# Altium footprint library Oscillator.PcbLib: 62 footprints (part 2 of 4)
Each footprint in its own frame and in the unit in brackets; x right, y up, seen from the top. Pads: shape width x height; smd on the part's side, far side on the other; paste and mask are expansions set on the pad; w line width, h text height; cw(c..) or ccw(c..) is an arc to the next point about the centre after c.
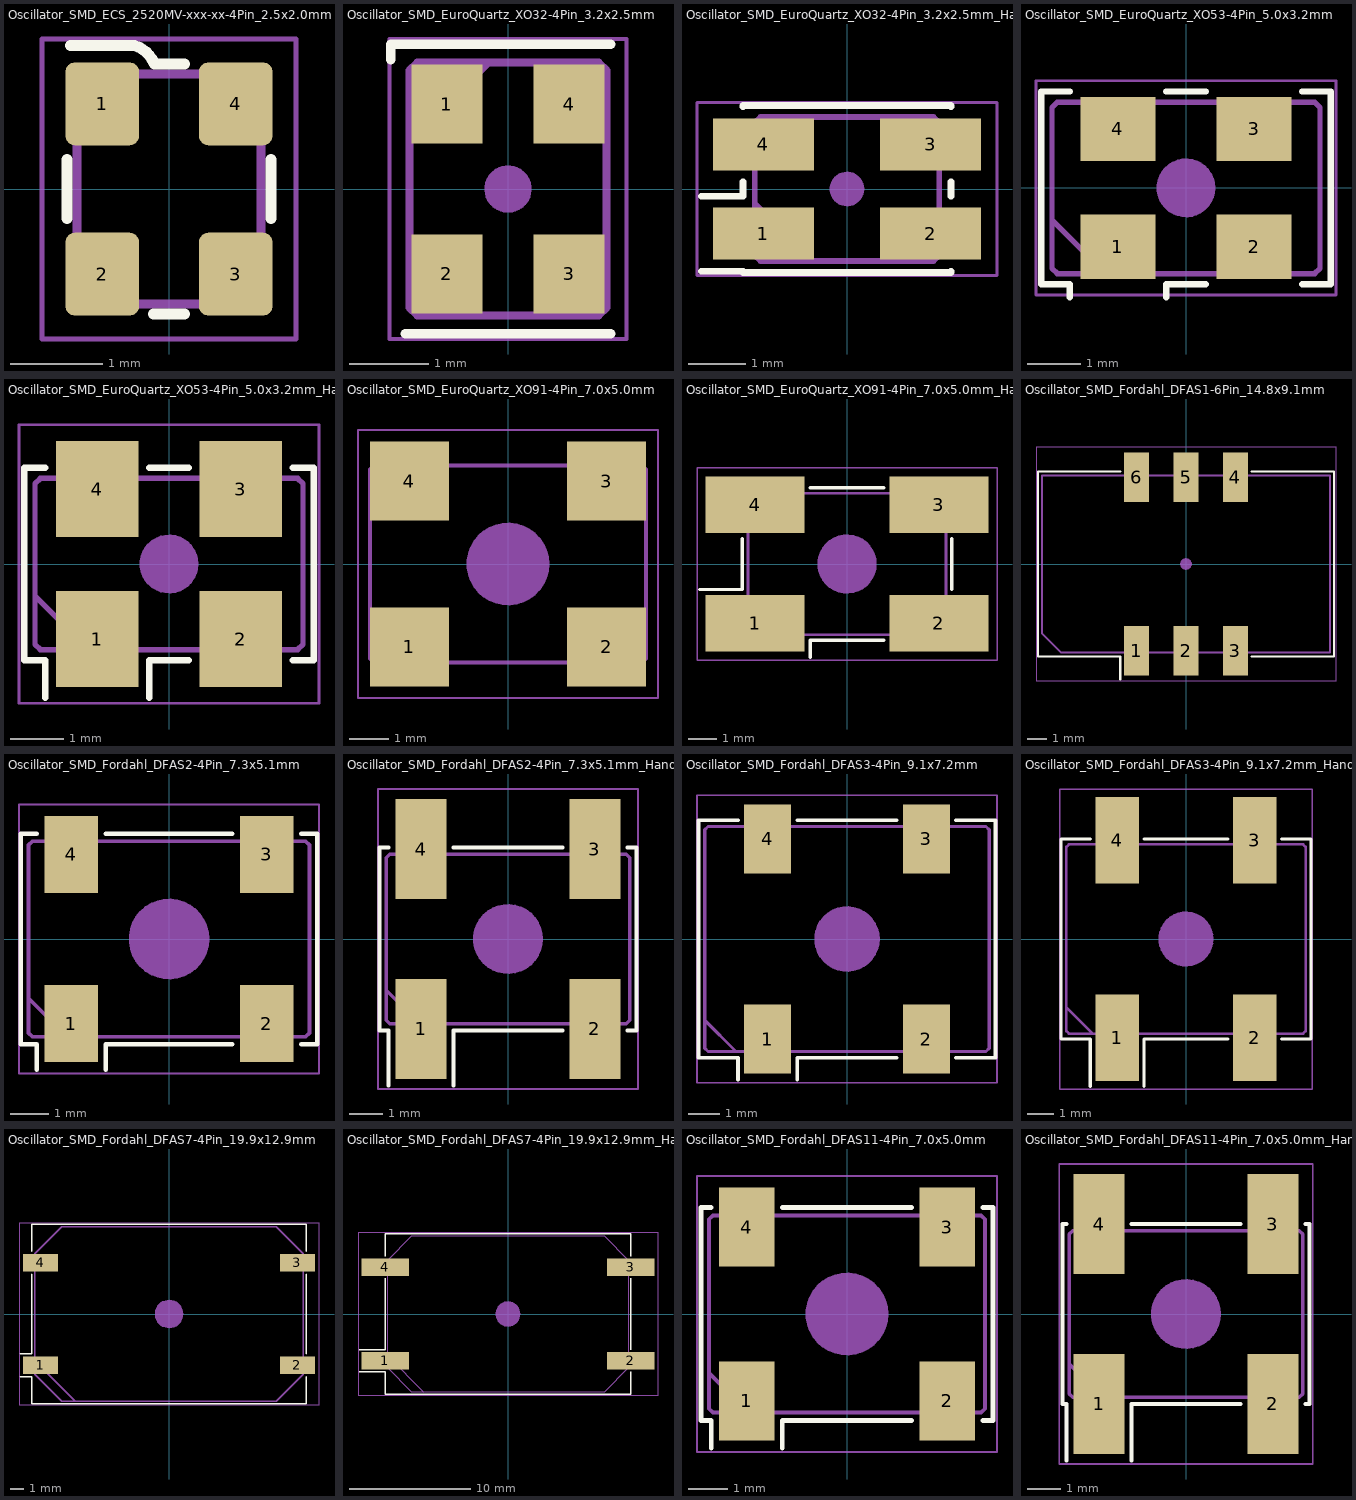
[diagram p1: the footprints below, top view; thin cyan lines are the x and y axes]

## Oscillator_SMD_ECS_2520MV-xxx-xx-4Pin_2.5x2.0mm [mm]
pads (4):
  rrect25% 0.8x0.9 smd: 1(-0.725,0.925) 2(-0.725,-0.925) 3(0.725,-0.925) 4(0.725,0.925)
F.SilkS:
  lines w0.12: -1.11,-0.32 -1.11,0.32 ; -1.07,1.56 -0.38,1.56 cw(c-0.47,1.24) -0.16,1.36 0.17,1.36 ; -0.17,-1.36 0.17,-1.36 ; 1.11,-0.32 1.11,0.32
F.CrtYd:
  lines w0.05: -1.38,-1.63 1.38,-1.63 1.38,1.63 -1.38,1.63 -1.38,-1.63
F.Fab:
  lines w0.1: -1,-1.25 -1,0.75 -0.5,1.25 1,1.25 1,-1.25 -1,-1.25
  text "'.Designator'" at 0.42,-2.023 h0.5

## Oscillator_SMD_EuroQuartz_XO32-4Pin_3.2x2.5mm [mm]
pads (4):
  rect 0.9x1 smd: 1(-0.775,1.075) 2(-0.775,-1.075) 3(0.775,-1.075) 4(0.775,1.075)
F.SilkS:
  lines w0.12: -1.485,1.635 -1.485,1.835 1.3,1.835 ; -1.3,-1.835 1.3,-1.835
F.CrtYd:
  lines w0.05: -1.5,-1.9 1.5,-1.9 1.5,1.9 -1.5,1.9 -1.5,-1.9
F.Fab:
  lines w0.1: -1.25,0.6 -0.25,1.6 ; -1.25,-1.5 -1.25,1.5 -1.15,1.6 1.15,1.6 1.25,1.5 1.25,-1.5 1.15,-1.6 -1.15,-1.6 -1.25,-1.5
  text "'.Designator'" at 0.588,-2.833 h0.7
F.Adhes:
  circle w0.1: c0,0 r0.25
  circle w0.117: c0,0 r0.058
  circle w0.083: c0,0 r0.208
  circle w0.083: c0,0 r0.133

## Oscillator_SMD_EuroQuartz_XO32-4Pin_3.2x2.5mm_HandSoldering [mm]
pads (4):
  rect 1.75x0.9 smd: 1(-1.45,-0.775) 2(1.45,-0.775) 3(1.45,0.775) 4(-1.45,0.775)
F.SilkS:
  lines w0.12: -2.525,-1.425 -1.8,-1.425 -1.8,-1.45 1.8,-1.45 1.8,-1.425 ; -2.525,-0.125 -1.8,-0.125 -1.8,0.125 ; -1.8,1.425 -1.8,1.45 1.8,1.45 1.8,1.425 ; 1.8,-0.125 1.8,0.125
F.CrtYd:
  lines w0.05: -2.6,-1.5 -2.6,1.5 2.6,1.5 2.6,-1.5 -2.6,-1.5
F.Fab:
  lines w0.1: -1.6,-0.25 -0.6,-1.25 ; -1.6,-1.15 -1.6,1.15 -1.5,1.25 1.5,1.25 1.6,1.15 1.6,-1.15 1.5,-1.25 -1.5,-1.25 -1.6,-1.15
  text "'.Designator'" at -2.833,-0.588 h0.7
F.Adhes:
  circle w0.1: c0,0 r0.25
  circle w0.083: c0,0 r0.208
  circle w0.083: c0,0 r0.133
  circle w0.117: c0,0 r0.058

## Oscillator_SMD_EuroQuartz_XO53-4Pin_5.0x3.2mm [mm]
pads (4):
  rect 1.4x1.2 smd: 1(-1.27,-1.1) 2(1.27,-1.1) 3(1.27,1.1) 4(-1.27,1.1)
F.SilkS:
  lines w0.12: -2.17,-2.04 -2.17,-1.8 -2.7,-1.8 -2.7,1.8 -2.17,1.8 ; -0.37,-2.04 -0.37,-1.8 0.37,-1.8 ; -0.37,1.8 0.37,1.8 ; 2.17,-1.8 2.7,-1.8 2.7,1.8 2.17,1.8
F.CrtYd:
  lines w0.05: -2.8,-2 2.8,-2 2.8,2 -2.8,2 -2.8,-2
F.Fab:
  lines w0.1: -2.5,-0.6 -1.5,-1.6 ; -2.5,-1.5 -2.5,1.5 -2.4,1.6 2.4,1.6 2.5,1.5 2.5,-1.5 2.4,-1.6 -2.4,-1.6 -2.5,-1.5
  text "'.Designator'" at -4.047,-0.84 h1
F.Adhes:
  circle w0.1: c0,0 r0.5
  circle w0.233: c0,0 r0.117
  circle w0.167: c0,0 r0.417
  circle w0.167: c0,0 r0.267

## Oscillator_SMD_EuroQuartz_XO53-4Pin_5.0x3.2mm_HandSoldering [mm]
pads (4):
  rect 1.54x1.8 smd: 1(-1.34,-1.4) 2(1.34,-1.4) 3(1.34,1.4) 4(-1.34,1.4)
F.SilkS:
  lines w0.12: -2.31,-2.5 -2.31,-1.8 -2.7,-1.8 -2.7,1.8 -2.31,1.8 ; -0.37,-2.5 -0.37,-1.8 0.37,-1.8 ; -0.37,1.8 0.37,1.8 ; 2.31,-1.8 2.7,-1.8 2.7,1.8 2.31,1.8
F.CrtYd:
  lines w0.05: -2.8,-2.6 2.8,-2.6 2.8,2.6 -2.8,2.6 -2.8,-2.6
F.Fab:
  lines w0.1: -2.5,-0.6 -1.5,-1.6 ; -2.5,-1.5 -2.4,-1.6 2.4,-1.6 2.5,-1.5 2.5,1.5 2.4,1.6 -2.4,1.6 -2.5,1.5 -2.5,-1.5
  text "'.Designator'" at -4.047,-0.84 h1
F.Adhes:
  circle w0.167: c0,0 r0.267
  circle w0.167: c0,0 r0.417
  circle w0.1: c0,0 r0.5
  circle w0.233: c0,0 r0.117

## Oscillator_SMD_EuroQuartz_XO91-4Pin_7.0x5.0mm [mm]
pads (4):
  rect 2x2 smd: 1(-2.5,-2.1) 2(2.5,-2.1) 3(2.5,2.1) 4(-2.5,2.1)
F.CrtYd:
  lines w0.05: -3.8,-3.4 3.8,-3.4 3.8,3.4 -3.8,3.4 -3.8,-3.4
F.Fab:
  lines w0.1: -3.5,-1.5 -2.5,-2.5 ; -3.5,-2.4 -3.4,-2.5 3.4,-2.5 3.5,-2.4 3.5,2.4 3.4,2.5 -3.4,2.5 -3.5,2.4 -3.5,-2.4
  text "'.Designator'" at -4.047,-0.84 h1
F.Adhes:
  circle w0.1: c0,0 r1
  circle w0.333: c0,0 r0.833
  circle w0.333: c0,0 r0.533
  circle w0.467: c0,0 r0.233

## Oscillator_SMD_EuroQuartz_XO91-4Pin_7.0x5.0mm_HandSoldering [mm]
pads (4):
  rect 3.5x2 smd: 1(-3.25,-2.1) 2(3.25,-2.1) 3(3.25,2.1) 4(-3.25,2.1)
F.SilkS:
  lines w0.12: -5.2,-0.9 -3.7,-0.9 -3.7,0.9 ; -1.3,-3.3 -1.3,-2.7 1.3,-2.7 ; -1.3,2.7 1.3,2.7 ; 3.7,-0.9 3.7,0.9
F.CrtYd:
  lines w0.05: -5.3,-3.4 5.3,-3.4 5.3,3.4 -5.3,3.4 -5.3,-3.4
F.Fab:
  lines w0.1: -3.5,-1.5 -2.5,-2.5 ; -3.5,-2.4 -3.5,2.4 -3.4,2.5 3.4,2.5 3.5,2.4 3.5,-2.4 3.4,-2.5 -3.4,-2.5 -3.5,-2.4
  text "'.Designator'" at -4.047,-0.84 h1
F.Adhes:
  circle w0.1: c0,0 r1
  circle w0.333: c0,0 r0.533
  circle w0.333: c0,0 r0.833
  circle w0.467: c0,0 r0.233

## Oscillator_SMD_Fordahl_DFAS1-6Pin_14.8x9.1mm [mm]
pads (6):
  rect 1.27x2.54 smd: 1(-2.54,-4.45) 2(0,-4.45) 3(2.54,-4.45) 4(2.54,4.45) 5(0,4.45) 6(-2.54,4.45)
F.SilkS:
  lines w0.12: -3.375,-5.92 -3.375,-4.75 -7.6,-4.75 -7.6,4.75 -3.375,4.75 ; 3.375,-4.75 7.6,-4.75 7.6,4.75 3.375,4.75
F.CrtYd:
  lines w0.05: -7.7,-6 -7.7,6 7.7,6 7.7,-6 -7.7,-6
F.Fab:
  lines w0.1: -7.4,-3.55 -6.4,-4.55 7.4,-4.55 7.4,4.55 -7.4,4.55 -7.4,-3.55
  text "'.Designator'" at -4.047,-0.84 h1
F.Adhes:
  circle w0.117: c0,0 r0.058
  circle w0.083: c0,0 r0.208
  circle w0.083: c0,0 r0.133
  circle w0.1: c0,0 r0.25

## Oscillator_SMD_Fordahl_DFAS2-4Pin_7.3x5.1mm [mm]
pads (4):
  rect 1.4x2 smd: 1(-2.54,-2.2) 2(2.54,-2.2) 3(2.54,2.2) 4(-2.54,2.2)
F.SilkS:
  lines w0.12: -3.44,-3.4 -3.44,-2.74 -3.85,-2.74 -3.85,2.74 -3.44,2.74 ; -1.64,-3.4 -1.64,-2.74 1.64,-2.74 ; -1.64,2.74 1.64,2.74 ; 3.44,-2.74 3.85,-2.74 3.85,2.74 3.44,2.74
F.CrtYd:
  lines w0.05: -3.9,-3.5 3.9,-3.5 3.9,3.5 -3.9,3.5 -3.9,-3.5
F.Fab:
  lines w0.1: -3.65,-1.54 -2.65,-2.54 ; -3.65,-2.44 -3.65,2.44 -3.55,2.54 3.55,2.54 3.65,2.44 3.65,-2.44 3.55,-2.54 -3.55,-2.54 -3.65,-2.44
  text "'.Designator'" at -4.047,-0.84 h1
F.Adhes:
  circle w0.333: c0,0 r0.533
  circle w0.1: c0,0 r1
  circle w0.467: c0,0 r0.233
  circle w0.333: c0,0 r0.833

## Oscillator_SMD_Fordahl_DFAS2-4Pin_7.3x5.1mm_HandSoldering [mm]
pads (4):
  rect 1.54x3 smd: 1(-2.61,-2.7) 2(2.61,-2.7) 3(2.61,2.7) 4(-2.61,2.7)
F.SilkS:
  lines w0.12: -3.58,-4.4 -3.58,-2.74 -3.85,-2.74 -3.85,2.74 -3.58,2.74 ; -1.64,-4.4 -1.64,-2.74 1.64,-2.74 ; -1.64,2.74 1.64,2.74 ; 3.58,-2.74 3.85,-2.74 3.85,2.74 3.58,2.74
F.CrtYd:
  lines w0.05: -3.9,-4.5 3.9,-4.5 3.9,4.5 -3.9,4.5 -3.9,-4.5
F.Fab:
  lines w0.1: -3.65,-1.54 -2.65,-2.54 ; -3.65,-2.44 -3.55,-2.54 3.55,-2.54 3.65,-2.44 3.65,2.44 3.55,2.54 -3.55,2.54 -3.65,2.44 -3.65,-2.44
  text "'.Designator'" at -4.047,-0.84 h1
F.Adhes:
  circle w0.1: c0,0 r1
  circle w0.467: c0,0 r0.233
  circle w0.333: c0,0 r0.833
  circle w0.333: c0,0 r0.533

## Oscillator_SMD_Fordahl_DFAS3-4Pin_9.1x7.2mm [mm]
pads (4):
  rect 1.5x2.2 smd: 1(-2.54,-3.2) 2(2.54,-3.2) 3(2.54,3.2) 4(-2.54,3.2)
F.SilkS:
  lines w0.12: -3.49,-4.5 -3.49,-3.8 -4.75,-3.8 -4.75,3.8 -3.49,3.8 ; -1.59,-4.5 -1.59,-3.8 1.59,-3.8 ; -1.59,3.8 1.59,3.8 ; 3.49,-3.8 4.75,-3.8 4.75,3.8 3.49,3.8
F.CrtYd:
  lines w0.05: -4.8,-4.6 -4.8,4.6 4.8,4.6 4.8,-4.6 -4.8,-4.6
F.Fab:
  lines w0.1: -4.55,-2.6 -3.55,-3.6 ; -4.55,-3.5 -4.45,-3.6 4.45,-3.6 4.55,-3.5 4.55,3.5 4.45,3.6 -4.45,3.6 -4.55,3.5 -4.55,-3.5
  text "'.Designator'" at -4.047,-0.84 h1
F.Adhes:
  circle w0.333: c0,0 r0.833
  circle w0.333: c0,0 r0.533
  circle w0.467: c0,0 r0.233
  circle w0.1: c0,0 r1

## Oscillator_SMD_Fordahl_DFAS3-4Pin_9.1x7.2mm_HandSoldering [mm]
pads (4):
  rect 1.65x3.3 smd: 1(-2.615,-3.75) 2(2.615,-3.75) 3(2.615,3.75) 4(-2.615,3.75)
F.SilkS:
  lines w0.12: -3.64,-5.6 -3.64,-3.8 -4.75,-3.8 -4.75,3.8 -3.64,3.8 ; -1.59,-5.6 -1.59,-3.8 1.59,-3.8 ; -1.59,3.8 1.59,3.8 ; 3.64,-3.8 4.75,-3.8 4.75,3.8 3.64,3.8
F.CrtYd:
  lines w0.05: -4.8,-5.7 4.8,-5.7 4.8,5.7 -4.8,5.7 -4.8,-5.7
F.Fab:
  lines w0.1: -4.55,-2.6 -3.55,-3.6 ; -4.55,-3.5 -4.45,-3.6 4.45,-3.6 4.55,-3.5 4.55,3.5 4.45,3.6 -4.45,3.6 -4.55,3.5 -4.55,-3.5
  text "'.Designator'" at -4.047,-0.84 h1
F.Adhes:
  circle w0.333: c0,0 r0.533
  circle w0.1: c0,0 r1
  circle w0.467: c0,0 r0.233
  circle w0.333: c0,0 r0.833

## Oscillator_SMD_Fordahl_DFAS7-4Pin_19.9x12.9mm [mm]
pads (4):
  rect 2.6x1.3 smd: 1(-9.5,-3.8) 2(9.5,-3.8) 3(9.5,3.8) 4(-9.5,3.8)
F.SilkS:
  lines w0.12: -11,-4.65 -10.15,-4.65 -10.15,-6.65 10.15,-6.65 10.15,-4.65 ; -11,-2.95 -10.15,-2.95 -10.15,2.95 ; -10.15,4.65 -10.15,6.65 10.15,6.65 10.15,4.65 ; 10.15,-2.95 10.15,2.95
F.CrtYd:
  lines w0.05: -11.1,-6.7 11.1,-6.7 11.1,6.7 -11.1,6.7 -11.1,-6.7
F.Fab:
  lines w0.1: -9.95,-3.45 -6.95,-6.45 ; -9.95,-4.45 -7.95,-6.45 7.95,-6.45 9.95,-4.45 9.95,4.45 7.95,6.45 -7.95,6.45 -9.95,4.45 -9.95,-4.45
  text "'.Designator'" at -4.047,-0.84 h1
F.Adhes:
  circle w0.333: c0,0 r0.533
  circle w0.1: c0,0 r1
  circle w0.333: c0,0 r0.833
  circle w0.467: c0,0 r0.233

## Oscillator_SMD_Fordahl_DFAS7-4Pin_19.9x12.9mm_HandSoldering [mm]
pads (4):
  rect 3.9x1.43 smd: 1(-10.15,-3.865) 2(10.15,-3.865) 3(10.15,3.865) 4(-10.15,3.865)
F.SilkS:
  lines w0.12: -12.3,-4.78 -10.15,-4.78 -10.15,-6.65 10.15,-6.65 10.15,-4.78 ; -12.3,-2.95 -10.15,-2.95 -10.15,2.95 ; -10.15,4.78 -10.15,6.65 10.15,6.65 10.15,4.78 ; 10.15,-2.95 10.15,2.95
F.CrtYd:
  lines w0.05: -12.4,-6.7 -12.4,6.7 12.4,6.7 12.4,-6.7 -12.4,-6.7
F.Fab:
  lines w0.1: -9.95,-3.45 -6.95,-6.45 ; -9.95,-4.45 -7.95,-6.45 7.95,-6.45 9.95,-4.45 9.95,4.45 7.95,6.45 -7.95,6.45 -9.95,4.45 -9.95,-4.45
  text "'.Designator'" at -4.047,-0.84 h1
F.Adhes:
  circle w0.333: c0,0 r0.833
  circle w0.1: c0,0 r1
  circle w0.333: c0,0 r0.533
  circle w0.467: c0,0 r0.233

## Oscillator_SMD_Fordahl_DFAS11-4Pin_7.0x5.0mm [mm]
pads (4):
  rect 1.4x2 smd: 1(-2.54,-2.2) 2(2.54,-2.2) 3(2.54,2.2) 4(-2.54,2.2)
F.SilkS:
  lines w0.12: -3.44,-3.4 -3.44,-2.7 -3.7,-2.7 -3.7,2.7 -3.44,2.7 ; -1.64,-3.4 -1.64,-2.7 1.64,-2.7 ; -1.64,2.7 1.64,2.7 ; 3.44,-2.7 3.7,-2.7 3.7,2.7 3.44,2.7
F.CrtYd:
  lines w0.05: -3.8,-3.5 -3.8,3.5 3.8,3.5 3.8,-3.5 -3.8,-3.5
F.Fab:
  lines w0.1: -3.5,-1.5 -2.5,-2.5 ; -3.5,-2.4 -3.4,-2.5 3.4,-2.5 3.5,-2.4 3.5,2.4 3.4,2.5 -3.4,2.5 -3.5,2.4 -3.5,-2.4
  text "'.Designator'" at -4.047,-0.84 h1
F.Adhes:
  circle w0.333: c0,0 r0.533
  circle w0.467: c0,0 r0.233
  circle w0.333: c0,0 r0.833
  circle w0.1: c0,0 r1

## Oscillator_SMD_Fordahl_DFAS11-4Pin_7.0x5.0mm_HandSoldering [mm]
pads (4):
  rect 1.54x3 smd: 1(-2.61,-2.7) 2(2.61,-2.7) 3(2.61,2.7) 4(-2.61,2.7)
F.SilkS:
  lines w0.12: -3.58,-4.4 -3.58,-2.7 -3.7,-2.7 -3.7,2.7 -3.58,2.7 ; -1.64,-4.4 -1.64,-2.7 1.64,-2.7 ; -1.64,2.7 1.64,2.7 ; 3.58,-2.7 3.7,-2.7 3.7,2.7 3.58,2.7
F.CrtYd:
  lines w0.05: -3.8,-4.5 3.8,-4.5 3.8,4.5 -3.8,4.5 -3.8,-4.5
F.Fab:
  lines w0.1: -3.5,-1.5 -2.5,-2.5 ; -3.5,-2.4 -3.4,-2.5 3.4,-2.5 3.5,-2.4 3.5,2.4 3.4,2.5 -3.4,2.5 -3.5,2.4 -3.5,-2.4
  text "'.Designator'" at -4.047,-0.84 h1
F.Adhes:
  circle w0.333: c0,0 r0.533
  circle w0.467: c0,0 r0.233
  circle w0.333: c0,0 r0.833
  circle w0.1: c0,0 r1